# Altium footprint library Potentiometer_THT.PcbLib: 112 footprints (part 6 of 7)
Each footprint in its own frame and in the unit in brackets; x right, y up, seen from the top. Pads: shape width x height; smd on the part's side, far side on the other; paste and mask are expansions set on the pad; w line width, h text height; cw(c..) or ccw(c..) is an arc to the next point about the centre after c.
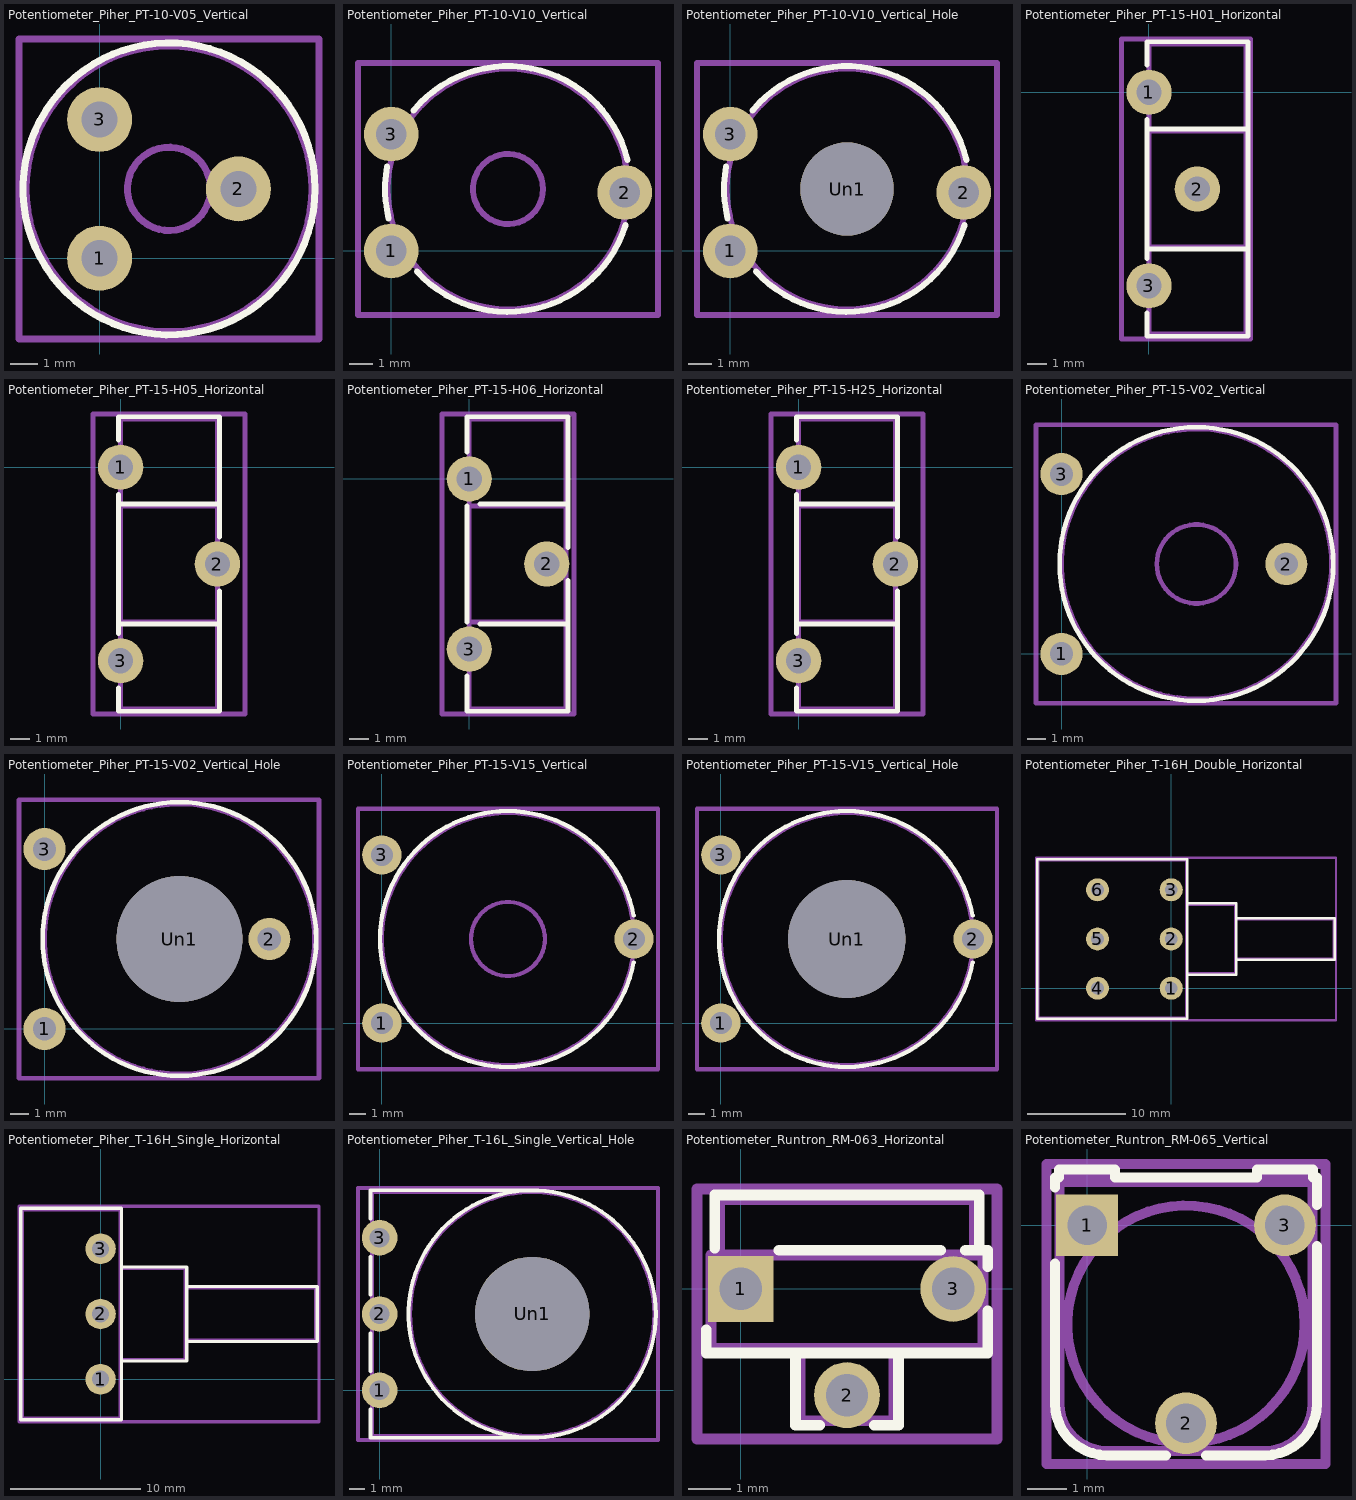
[diagram p5: the footprints below, top view; thin cyan lines are the x and y axes]

## Potentiometer_Piher_PT-10-V05_Vertical [mm]
pads (3):
  round 2.34 hole 1.3: 1(0,0) 2(5,2.5) 3(0,5)
F.SilkS:
  circle w0.254: c2.5,2.5 r5.26
F.Fab:
  circle w0.254: c2.5,2.5 r1.5
  circle w0.254: c2.5,2.5 r5.15
  text "'.Designator'" at -0.61,-1.547 h1
F.CrtYd:
  lines w0.254: -2.9,-2.91 -2.9,7.9 7.9,7.9 7.9,-2.91 -2.9,-2.91

## Potentiometer_Piher_PT-10-V10_Vertical [mm]
pads (3):
  round 2.34 hole 1.3: 1(0,0) 2(10,2.5) 3(0,5)
F.SilkS:
  lines w0.254: -0.172,3.611 ccw(c4.998,2.652) -0.108,1.396 ; 0.96,6.019 cw(c5,2.65) 10.11,3.896 ; 1.094,-0.873 ccw(c5,2.651) 10.027,1.1
F.Fab:
  circle w0.254: c5,2.65 r1.5
  circle w0.254: c5,2.65 r5.15
  text "'.Designator'" at 1.89,-1.397 h1
F.CrtYd:
  lines w0.254: -1.42,-2.75 -1.42,8.05 11.42,8.05 11.42,-2.75 -1.42,-2.75

## Potentiometer_Piher_PT-10-V10_Vertical_Hole [mm]
pads (4):
  round 2.34 hole 1.3: 1(0,0) 2(10,2.5) 3(0,5)
  round 4 hole 4: Un1(5,2.65)
F.SilkS:
  lines w0.254: -0.172,3.611 ccw(c4.998,2.652) -0.108,1.396 ; 0.96,6.019 cw(c5,2.65) 10.11,3.896 ; 1.094,-0.873 ccw(c5,2.651) 10.027,1.1
F.Fab:
  circle w0.254: c5,2.65 r5.15
  text "'.Designator'" at 1.89,-1.397 h1
F.CrtYd:
  lines w0.254: -1.42,-2.75 -1.42,8.05 11.42,8.05 11.42,-2.75 -1.42,-2.75

## Potentiometer_Piher_PT-15-H01_Horizontal [mm]
pads (3):
  round 2.34 hole 1.3: 1(0,0) 2(2.5,-5) 3(0,-10)
F.SilkS:
  lines w0.254: -0.11,-11.396 -0.11,-12.61 5.11,-12.61 5.11,2.61 -0.11,2.61 -0.11,1.396 ; -0.11,-8.604 -0.11,-1.396 ; -0.11,-8.11 -0.11,-1.89 5.11,-1.89 5.11,-8.11 -0.11,-8.11
F.Fab:
  lines w0.254: 0,-12.5 0,2.5 5,2.5 5,-12.5 0,-12.5 ; 0,-8 0,-2 5,-2 5,-8 0,-8
  text "'.Designator'" at -1.547,-5.84 h1
F.CrtYd:
  lines w0.254: -1.42,-12.75 -1.42,2.75 5.25,2.75 5.25,-12.75 -1.42,-12.75

## Potentiometer_Piher_PT-15-H05_Horizontal [mm]
pads (3):
  round 2.34 hole 1.3: 1(0,0) 2(5,-5) 3(0,-10)
F.SilkS:
  lines w0.254: -0.11,-11.396 -0.11,-12.61 5.11,-12.61 5.11,-6.396 5.11,-8.11 -0.11,-8.11 -0.11,-1.89 5.11,-1.89 5.11,-3.604 5.11,2.61 -0.11,2.61 -0.11,1.396 ; -0.11,-8.604 -0.11,-1.396
F.Fab:
  lines w0.254: 0,-12.5 0,2.5 5,2.5 5,-12.5 0,-12.5 ; 0,-8 0,-2 5,-2 5,-8 0,-8
  text "'.Designator'" at -1.547,-5.84 h1
F.CrtYd:
  lines w0.254: -1.42,-12.75 -1.42,2.75 6.42,2.75 6.42,-12.75 -1.42,-12.75

## Potentiometer_Piher_PT-15-H06_Horizontal [mm]
pads (3):
  round 2.34 hole 1.3: 1(0,0) 2(4,-4.4) 3(0,-8.8)
F.SilkS:
  lines w0.254: -0.11,-10.196 -0.11,-12.01 5.11,-12.01 5.11,-5.253 5.11,-7.51 0.544,-7.51 ; -0.11,1.396 -0.11,3.21 5.11,3.21 5.11,-3.547 5.11,-1.29 0.544,-1.29 ; -0.11,-7.404 -0.11,-1.396 -0.11,-7.404
F.Fab:
  lines w0.254: 0,-11.9 0,3.1 5,3.1 5,-11.9 0,-11.9 ; 0,-7.4 0,-1.4 5,-1.4 5,-7.4 0,-7.4
  text "'.Designator'" at -1.547,-5.24 h1
F.CrtYd:
  lines w0.254: -1.42,-12.15 -1.42,3.35 5.42,3.35 5.42,-12.15 -1.42,-12.15

## Potentiometer_Piher_PT-15-H25_Horizontal [mm]
pads (3):
  round 2.34 hole 1.3: 1(0,0) 2(5,-5) 3(0,-10)
F.SilkS:
  lines w0.254: -0.11,-11.396 -0.11,-12.61 5.11,-12.61 5.11,-6.396 5.11,-8.11 -0.11,-8.11 -0.11,-1.89 5.11,-1.89 5.11,-3.604 5.11,2.61 -0.11,2.61 -0.11,1.396 ; -0.11,-8.604 -0.11,-1.396
F.Fab:
  lines w0.254: 0,-12.5 0,2.5 5,2.5 5,-12.5 0,-12.5 ; 0,-8 0,-2 5,-2 5,-8 0,-8
  text "'.Designator'" at -1.547,-5.84 h1
F.CrtYd:
  lines w0.254: -1.42,-12.75 -1.42,2.75 6.42,2.75 6.42,-12.75 -1.42,-12.75

## Potentiometer_Piher_PT-15-V02_Vertical [mm]
pads (3):
  round 2.34 hole 1.3: 1(0,0) 2(12.5,5) 3(0,10)
F.SilkS:
  circle w0.254: c7.5,5 r7.61
F.Fab:
  circle w0.254: c7.5,5 r2.2
  circle w0.254: c7.5,5 r7.5
  text "'.Designator'" at 2.04,0.953 h1
F.CrtYd:
  lines w0.254: -1.42,-2.75 -1.42,12.75 15.26,12.75 15.26,-2.75 -1.42,-2.75

## Potentiometer_Piher_PT-15-V02_Vertical_Hole [mm]
pads (4):
  round 2.34 hole 1.3: 1(0,0) 2(12.5,5) 3(0,10)
  round 7 hole 7: Un1(7.5,5)
F.SilkS:
  circle w0.254: c7.5,5 r7.61
F.Fab:
  circle w0.254: c7.5,5 r7.5
  text "'.Designator'" at 2.04,0.953 h1
F.CrtYd:
  lines w0.254: -1.42,-2.75 -1.42,12.75 15.26,12.75 15.26,-2.75 -1.42,-2.75

## Potentiometer_Piher_PT-15-V15_Vertical [mm]
pads (3):
  round 2.34 hole 1.3: 1(0,0) 2(15,5) 3(0,10)
F.SilkS:
  lines w0.254: 14.98,3.6 cw(c7.5,5) 14.98,6.4
F.Fab:
  circle w0.254: c7.5,5 r2.2
  circle w0.254: c7.5,5 r7.5
  text "'.Designator'" at 2.04,0.953 h1
F.CrtYd:
  lines w0.254: -1.42,-2.75 -1.42,12.75 16.43,12.75 16.43,-2.75 -1.42,-2.75

## Potentiometer_Piher_PT-15-V15_Vertical_Hole [mm]
pads (4):
  round 2.34 hole 1.3: 1(0,0) 2(15,5) 3(0,10)
  round 7 hole 7: Un1(7.5,5)
F.SilkS:
  lines w0.254: 14.98,3.6 cw(c7.5,5) 14.98,6.4
F.Fab:
  circle w0.254: c7.5,5 r7.5
  text "'.Designator'" at 2.04,0.953 h1
F.CrtYd:
  lines w0.254: -1.42,-2.75 -1.42,12.75 16.43,12.75 16.43,-2.75 -1.42,-2.75

## Potentiometer_Piher_T-16H_Double_Horizontal [mm]
pads (6):
  round 2.34 hole 1.3: 1(0,0) 2(0,5) 3(0,10) 4(-7.5,0) 5(-7.5,5) 6(-7.5,10)
F.SilkS:
  lines w0.254: -13.61,-3.11 -13.61,13.11 1.61,13.11 1.61,-3.11 -13.61,-3.11 ; 1.61,1.39 1.61,8.61 6.61,8.61 6.61,1.39 1.61,1.39 ; 6.61,2.89 6.61,7.11 16.61,7.11 16.61,2.89 6.61,2.89
F.Fab:
  lines w0.254: -13.5,-3 -13.5,13 1.5,13 1.5,-3 -13.5,-3 ; 1.5,1.5 1.5,8.5 6.5,8.5 6.5,1.5 1.5,1.5 ; 6.5,3 6.5,7 16.5,7 16.5,3 6.5,3
  text "'.Designator'" at -10.047,4.16 h1
F.CrtYd:
  lines w0.254: -13.75,-3.25 -13.75,13.25 16.75,13.25 16.75,-3.25 -13.75,-3.25

## Potentiometer_Piher_T-16H_Single_Horizontal [mm]
pads (3):
  round 2.34 hole 1.3: 1(0,0) 2(0,5) 3(0,10)
F.SilkS:
  lines w0.254: -6.11,-3.11 -6.11,13.11 1.61,13.11 1.61,-3.11 -6.11,-3.11 ; 1.61,1.39 1.61,8.61 6.61,8.61 6.61,1.39 1.61,1.39 ; 6.61,2.89 6.61,7.11 16.61,7.11 16.61,2.89 6.61,2.89
F.Fab:
  lines w0.254: -6,-3 -6,13 1.5,13 1.5,-3 -6,-3 ; 1.5,1.5 1.5,8.5 6.5,8.5 6.5,1.5 1.5,1.5 ; 6.5,3 6.5,7 16.5,7 16.5,3 6.5,3
  text "'.Designator'" at -6.297,4.16 h1
F.CrtYd:
  lines w0.254: -6.25,-3.25 -6.25,13.25 16.75,13.25 16.75,-3.25 -6.25,-3.25

## Potentiometer_Piher_T-16L_Single_Vertical_Hole [mm]
pads (4):
  round 2.34 hole 1.3: 1(0,0) 2(0,5) 3(0,10)
  round 7.5 hole 7.5: Un1(10,5)
F.SilkS:
  circle w0.254: c10,5 r8.11
  lines w0.254: -0.61,-1.26 -0.61,-3.11 10,-3.11 ; -0.61,1.26 -0.61,3.74 ; -0.61,6.26 -0.61,8.74 ; -0.61,11.26 -0.61,13.11 10,13.11
F.Fab:
  circle w0.254: c10,5 r8
  lines w0.254: 10,-3 -0.5,-3 -0.5,13 10,13
  text "'.Designator'" at 1.34,0.953 h1
F.CrtYd:
  lines w0.254: -1.42,-3.25 -1.42,13.25 18.25,13.25 18.25,-3.25 -1.42,-3.25

## Potentiometer_Runtron_RM-063_Horizontal [mm]
pads (3):
  rect 1.55x1.55 hole 1: 1(0,0)
  round 1.55 hole 1: 2(2.5,-2.5) 3(5,0)
F.SilkS:
  lines w0.254: -0.81,-0.96 -0.81,-1.51 5.81,-1.51 5.81,-0.52 ; -0.61,0.96 -0.61,2.2 ; -0.61,2.21 5.61,2.21 5.61,0.91 ; 0.9,0.91 4.7,0.91 ; 1.29,-1.51 1.29,-3.21 1.86,-3.21 ; 3.14,-3.21 3.71,-3.21 3.71,-1.51 ; 5.29,0.91 5.81,0.91 5.81,0.52
F.Fab:
  lines w0.254: -0.5,0.8 -0.5,2.1 5.5,2.1 5.5,0.8 ; 1.4,-1.4 1.4,-3.1 3.6,-3.1 3.6,-1.4 ; -0.7,-1.4 -0.7,0.8 5.7,0.8 5.7,-1.4 -0.7,-1.4
  text "'.Designator'" at -1.547,-1.14 h1
F.CrtYd:
  lines w0.254: -1.03,-3.53 -1.03,2.35 6.03,2.35 6.03,-3.53 -1.03,-3.53

## Potentiometer_Runtron_RM-065_Vertical [mm]
pads (3):
  rect 1.56x1.56 hole 1: 1(0,0)
  round 1.56 hole 1: 2(2.5,-5) 3(5,0)
F.SilkS:
  lines w0.254: -0.81,-0.96 -0.81,-4.5 ccw(c0.5,-4.5) 0.5,-5.81 1.99,-5.81 ; -0.81,0.96 -0.81,1.21 -0.71,1.21 -0.71,1.41 0.71,1.41 0.71,1.21 4.29,1.21 4.29,1.41 5.71,1.41 5.71,1.21 5.81,1.21 5.81,0.52 ; 3.01,-5.81 4.5,-5.81 ccw(c4.5,-4.5) 5.81,-4.5 5.81,-0.52
F.Fab:
  circle w0.254: c2.5,-2.5 r3
  lines w0.254: -0.6,1.1 -0.6,1.3 0.6,1.3 0.6,1.1 ; 4.4,1.1 4.4,1.3 ; 4.41,1.3 5.6,1.3 5.6,1.1 ; -0.7,-4.5 -0.7,1.1 5.7,1.1 5.7,-4.5 cw(c4.5,-4.5) 4.5,-5.7 0.5,-5.7 cw(c0.5,-4.5) -0.7,-4.5
  text "'.Designator'" at -1.547,-3.34 h1
F.CrtYd:
  lines w0.254: -1.03,-6.03 -1.03,1.55 6.03,1.55 6.03,-6.03 -1.03,-6.03